# Altium footprint library NXP Semiconductors Cortex-M0.PcbLib: 22 footprints (part 1 of 2)
Each footprint in its own frame and in the unit in brackets; x right, y up, seen from the top. Pads: shape width x height; smd on the part's side, far side on the other; paste and mask are expansions set on the pad; w line width, h text height; cw(c..) or ccw(c..) is an arc to the next point about the centre after c.
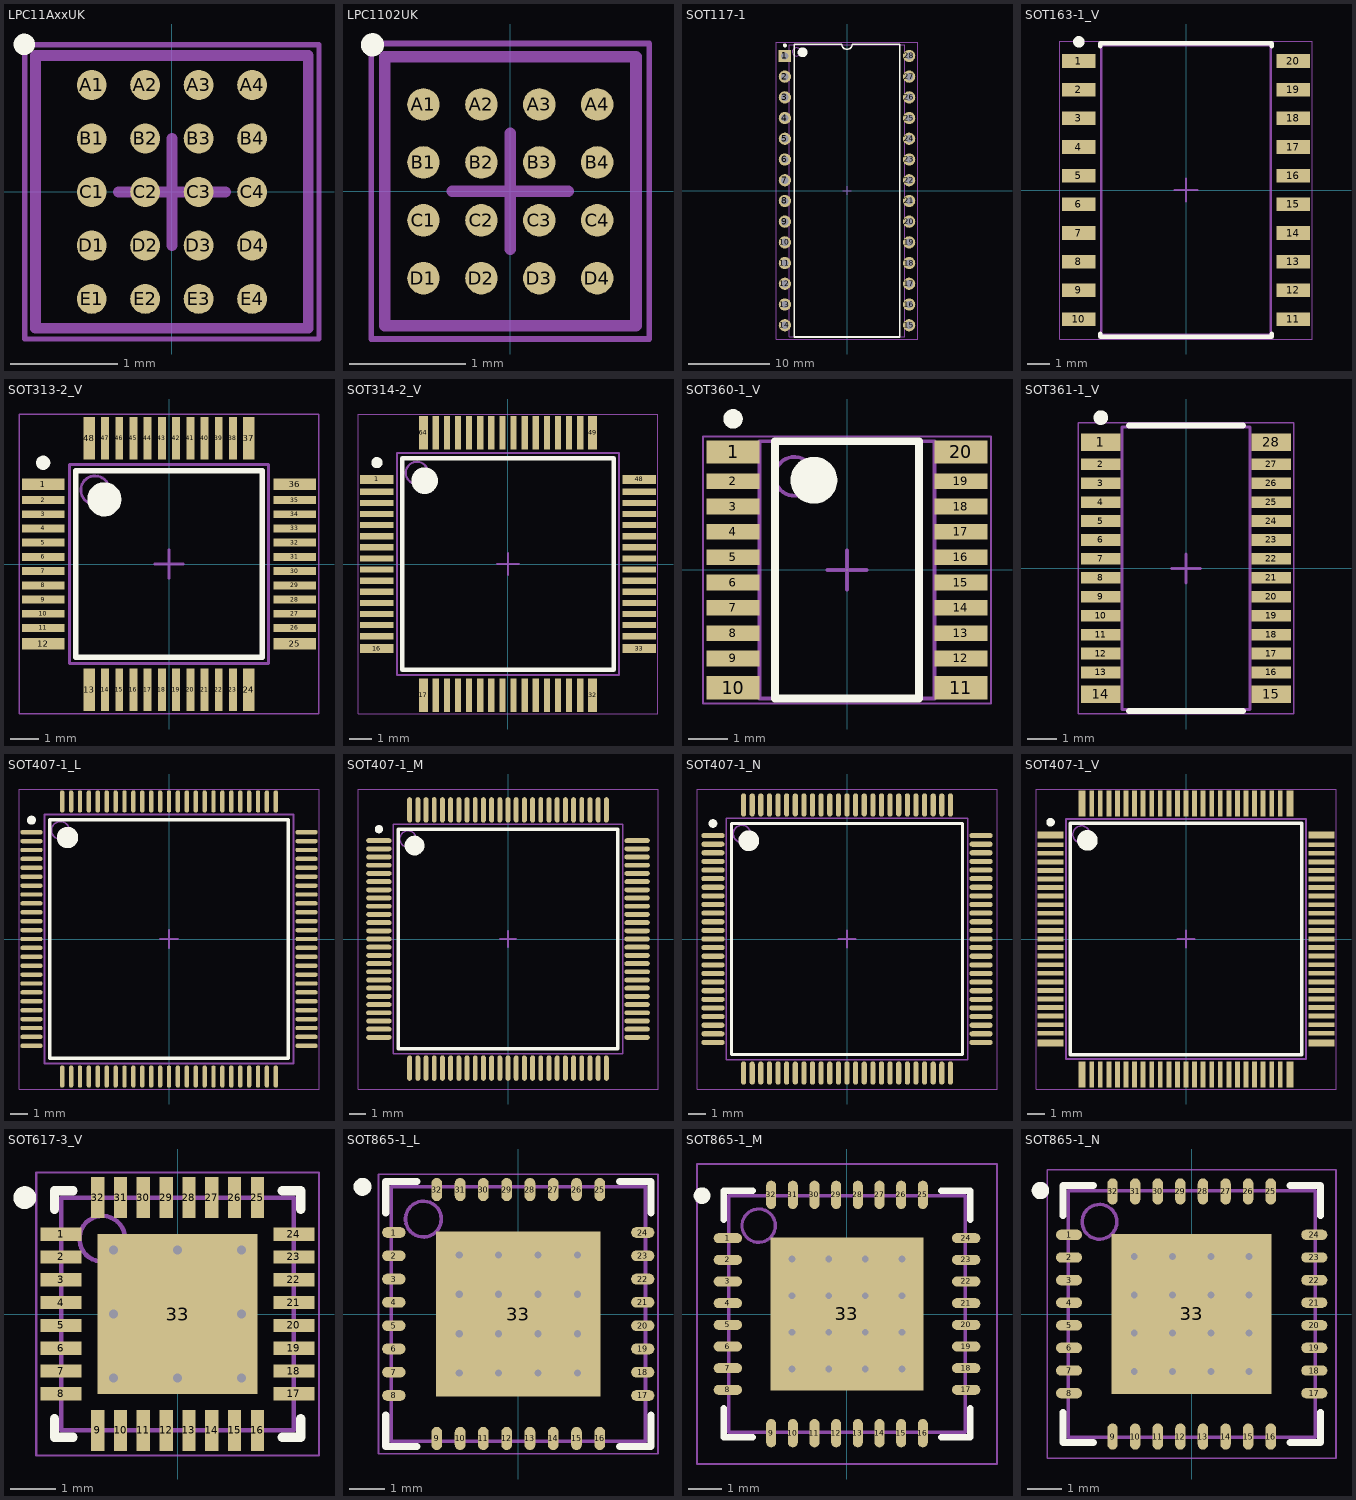
[diagram p0: the footprints below, top view; thin cyan lines are the x and y axes]

## LPC11AxxUK [mm] "BGA, 20-Leads, Body 2.55x2.55mm, Pitch 0.5mm, NXP Recommended Pads"
height 0.65
pads (20):
  round 0.28 smd: A1(-0.75,1) A2(-0.25,1) A3(0.25,1) A4(0.75,1) B1(-0.75,0.5) B2(-0.25,0.5) B3(0.25,0.5) B4(0.75,0.5) C1(-0.75,0) C2(-0.25,0) C3(0.25,0) C4(0.75,0) D1(-0.75,-0.5) D2(-0.25,-0.5) D3(0.25,-0.5) D4(0.75,-0.5) E1(-0.75,-1) E2(-0.25,-1) E3(0.25,-1) E4(0.75,-1)
Top Overlay:
  circle w0.1: c-1.38,1.38 r0.05
Mechanical 13:
  lines w0.1: -1.275,-1.275 1.275,-1.275 1.275,1.275 -1.275,1.275 -1.275,-1.275
Mechanical 15:
  lines w0.05: -1.375,-1.375 -1.375,1.375 1.375,1.375 1.375,-1.375 -1.375,-1.375
  lines w0.1: -0.5,0 0.5,0 ; 0,-0.5 0,0.5
3D body: height 0.65, standoff 0.21, extent -1.275,-1.275 1.275,1.275

## LPC1102UK [mm] "BGA, 16-Leads, Body 2.32x2.17mm, Pitch 0.5mm, NXP Recommended Pads"
height 0.65
pads (16):
  round 0.28 smd: A1(-0.75,0.75) A2(-0.25,0.75) A3(0.25,0.75) A4(0.75,0.75) B1(-0.75,0.25) B2(-0.25,0.25) B3(0.25,0.25) B4(0.75,0.25) C1(-0.75,-0.25) C2(-0.25,-0.25) C3(0.25,-0.25) C4(0.75,-0.25) D1(-0.75,-0.75) D2(-0.25,-0.75) D3(0.25,-0.75) D4(0.75,-0.75)
Top Overlay:
  circle w0.1: c-1.19,1.265 r0.05
Mechanical 13:
  lines w0.1: -1.085,-1.16 1.085,-1.16 1.085,1.16 -1.085,1.16 -1.085,-1.16
Mechanical 15:
  lines w0.05: -1.2,-1.275 1.2,-1.275 1.2,1.275 -1.2,1.275 -1.2,-1.275
  lines w0.1: -0.5,0 0.5,0 ; 0,-0.5 0,0.5
3D body: height 0.65, standoff 0.21, extent -1.085,-1.16 1.085,1.16

## SOT117-1 [mm] "DIP, 28-Leads, Row Spacing 15.24mm, Pitch 2.54mm, Body 34.9x14mm"
height 5.08
pads (28):
  rect 1.5x1.5 hole 0.9: 1(-7.62,16.51)
  round 1.5 hole 0.9: 2(-7.62,13.97) 3(-7.62,11.43) 4(-7.62,8.89) 5(-7.62,6.35) 6(-7.62,3.81) 7(-7.62,1.27) 8(-7.62,-1.27) 9(-7.62,-3.81) 10(-7.62,-6.35) 11(-7.62,-8.89) 12(-7.62,-11.43) 13(-7.62,-13.97) 14(-7.62,-16.51) 15(7.62,-16.51) 16(7.62,-13.97) 17(7.62,-11.43) 18(7.62,-8.89) 19(7.62,-6.35) 20(7.62,-3.81) 21(7.62,-1.27) 22(7.62,1.27) 23(7.62,3.81) 24(7.62,6.35) 25(7.62,8.89) 26(7.62,11.43) 27(7.62,13.97) 28(7.62,16.51)
Top Overlay:
  circle w0.25: c-7.62,17.81 r0.125
  circle w0.6: c-5.45,16.95 r0.3
  lines w0.2: -6.45,-17.95 -6.45,17.95 -0.635,17.95 ccw(c0,17.95) 0.635,17.95 6.45,17.95 6.45,-17.95 -6.45,-17.95
Mechanical 13:
  circle w0.1: c-6.2,17 r0.5
  lines w0.1: -7.1,-17.9 -7.1,17.9 7.1,17.9 7.1,-17.9 -7.1,-17.9
Mechanical 15:
  lines w0.05: -8.65,-18.2 -8.65,18.2 8.65,18.2 8.65,-18.2 -8.65,-18.2
  lines w0.1: -0.5,0 0.5,0 ; 0,-0.5 0,0.5
3D body: height 5.08, standoff 0.51, extent -7.1,-17.9 7.1,17.9

## SOT163-1_V [mm] "SOIC, 20-Leads, Body 12.8x7.5mm, Pitch 1.27mm, NXP Recommended"
height 2.65
pads (20):
  rect 1.5x0.6 smd: 1(-4.75,5.715) 2(-4.75,4.445) 3(-4.75,3.175) 4(-4.75,1.905) 5(-4.75,0.635) 6(-4.75,-0.635) 7(-4.75,-1.905) 8(-4.75,-3.175) 9(-4.75,-4.445) 10(-4.75,-5.715) 11(4.75,-5.715) 12(4.75,-4.445) 13(4.75,-3.175) 14(4.75,-1.905) 15(4.75,-0.635) 16(4.75,0.635) 17(4.75,1.905) 18(4.75,3.175) 19(4.75,4.445) 20(4.75,5.715)
Top Overlay:
  circle w0.25: c-4.75,6.565 r0.125
  lines w0.2: -3.8,-6.361 -3.8,-6.5 3.8,-6.5 3.8,-6.361 ; -3.8,6.361 -3.8,6.5 3.8,6.5 3.8,6.361
Mechanical 13:
  lines w0.1: -3.75,-6.4 -3.75,6.4 3.75,6.4 3.75,-6.4 -3.75,-6.4
Mechanical 15:
  lines w0.05: -5.6,-6.6 5.6,-6.6 5.6,6.6 -5.6,6.6 -5.6,-6.6
  lines w0.1: -0.5,0 0.5,0 ; 0,-0.5 0,0.5
3D body: height 2.65, standoff 0.1, extent -3.749,-6.399 3.749,6.399

## SOT313-2_V [mm] "Thin QFP, 48-Leads, Body 7x7mm, Pitch 0.5mm, NXP Recommended"
height 1.6
pads (48):
  rect 1.5x0.4 smd: 1(-4.425,2.81) 12(-4.425,-2.81) 25(4.425,-2.81) 36(4.425,2.81)
  rect 1.5x0.28 smd: 2(-4.425,2.25) 3(-4.425,1.75) 4(-4.425,1.25) 5(-4.425,0.75) 6(-4.425,0.25) 7(-4.425,-0.25) 8(-4.425,-0.75) 9(-4.425,-1.25) 10(-4.425,-1.75) 11(-4.425,-2.25) 26(4.425,-2.25) 27(4.425,-1.75) 28(4.425,-1.25) 29(4.425,-0.75) 30(4.425,-0.25) 31(4.425,0.25) 32(4.425,0.75) 33(4.425,1.25) 34(4.425,1.75) 35(4.425,2.25)
  rect 0.4x1.5 smd: 13(-2.81,-4.425) 24(2.81,-4.425) 37(2.81,4.425) 48(-2.81,4.425)
  rect 0.28x1.5 smd: 14(-2.25,-4.425) 15(-1.75,-4.425) 16(-1.25,-4.425) 17(-0.75,-4.425) 18(-0.25,-4.425) 19(0.25,-4.425) 20(0.75,-4.425) 21(1.25,-4.425) 22(1.75,-4.425) 23(2.25,-4.425) 38(2.25,4.425) 39(1.75,4.425) 40(1.25,4.425) 41(0.75,4.425) 42(0.25,4.425) 43(-0.25,4.425) 44(-0.75,4.425) 45(-1.25,4.425) 46(-1.75,4.425) 47(-2.25,4.425)
Top Overlay:
  circle w0.6: c-2.275,2.275 r0.3
  circle w0.25: c-4.425,3.56 r0.125
  lines w0.2: -3.275,-3.275 3.275,-3.275 3.275,3.275 -3.275,3.275 -3.275,-3.275
Mechanical 13:
  circle w0.1: c-2.6,2.6 r0.5
  lines w0.1: -3.5,-3.5 3.5,-3.5 3.5,3.5 -3.5,3.5 -3.5,-3.5
Mechanical 15:
  lines w0.05: -5.275,-5.275 5.275,-5.275 5.275,5.275 -5.275,5.275 -5.275,-5.275
  lines w0.1: -0.5,0 0.5,0 ; 0,-0.5 0,0.5
3D body: height 1.6, standoff 0.05, extent -3.5,-3.5 3.5,3.5

## SOT314-2_V [mm] "Thin QFP, 64-Leads, Body 10x10mm, Pitch 0.5mm, NXP Recommended"
height 1.6
pads (64):
  rect 1.5x0.4 smd: 1(-5.9,3.81) 16(-5.9,-3.81) 33(5.9,-3.81) 48(5.9,3.81)
  rect 1.5x0.28 smd: 2(-5.9,3.25) 3(-5.9,2.75) 4(-5.9,2.25) 5(-5.9,1.75) 6(-5.9,1.25) 7(-5.9,0.75) 8(-5.9,0.25) 9(-5.9,-0.25) 10(-5.9,-0.75) 11(-5.9,-1.25) 12(-5.9,-1.75) 13(-5.9,-2.25) 14(-5.9,-2.75) 15(-5.9,-3.25) 34(5.9,-3.25) 35(5.9,-2.75) 36(5.9,-2.25) 37(5.9,-1.75) 38(5.9,-1.25) 39(5.9,-0.75) 40(5.9,-0.25) 41(5.9,0.25) 42(5.9,0.75) 43(5.9,1.25) 44(5.9,1.75) 45(5.9,2.25) 46(5.9,2.75) 47(5.9,3.25)
  rect 0.4x1.5 smd: 17(-3.81,-5.9) 32(3.81,-5.9) 49(3.81,5.9) 64(-3.81,5.9)
  rect 0.28x1.5 smd: 18(-3.25,-5.9) 19(-2.75,-5.9) 20(-2.25,-5.9) 21(-1.75,-5.9) 22(-1.25,-5.9) 23(-0.75,-5.9) 24(-0.25,-5.9) 25(0.25,-5.9) 26(0.75,-5.9) 27(1.25,-5.9) 28(1.75,-5.9) 29(2.25,-5.9) 30(2.75,-5.9) 31(3.25,-5.9) 50(3.25,5.9) 51(2.75,5.9) 52(2.25,5.9) 53(1.75,5.9) 54(1.25,5.9) 55(0.75,5.9) 56(0.25,5.9) 57(-0.25,5.9) 58(-0.75,5.9) 59(-1.25,5.9) 60(-1.75,5.9) 61(-2.25,5.9) 62(-2.75,5.9) 63(-3.25,5.9)
Top Overlay:
  circle w0.6: c-3.75,3.75 r0.3
  circle w0.25: c-5.9,4.56 r0.125
  lines w0.2: -4.75,-4.75 4.75,-4.75 4.75,4.75 -4.75,4.75 -4.75,-4.75
Mechanical 13:
  circle w0.1: c-4.1,4.1 r0.5
  lines w0.1: -5,-5 5,-5 5,5 -5,5 -5,-5
Mechanical 15:
  lines w0.05: -6.75,-6.75 6.75,-6.75 6.75,6.75 -6.75,6.75 -6.75,-6.75
  lines w0.1: -0.5,0 0.5,0 ; 0,-0.5 0,0.5
3D body: height 1.6, standoff 0.05, extent -5,-5 5,5

## SOT360-1_V [mm] "TSOP, 20-Leads, Body 6.5x4.4mm, Pitch 0.65mm, NXP Recommended"
height 1.1
pads (20):
  rect 1.35x0.6 smd: 1(-2.925,3.025) 10(-2.925,-3.025) 11(2.925,-3.025) 20(2.925,3.025)
  rect 1.35x0.4 smd: 2(-2.925,2.275) 3(-2.925,1.625) 4(-2.925,0.975) 5(-2.925,0.325) 6(-2.925,-0.325) 7(-2.925,-0.975) 8(-2.925,-1.625) 9(-2.925,-2.275) 12(2.925,-2.275) 13(2.925,-1.625) 14(2.925,-0.975) 15(2.925,-0.325) 16(2.925,0.325) 17(2.925,0.975) 18(2.925,1.625) 19(2.925,2.275)
Top Overlay:
  circle w0.6: c-0.85,2.3 r0.3
  circle w0.25: c-2.925,3.875 r0.125
  lines w0.2: -1.85,-3.3 1.85,-3.3 1.85,3.3 -1.85,3.3 -1.85,-3.3
Mechanical 13:
  circle w0.1: c-1.35,2.4 r0.5
  lines w0.1: -2.25,-3.3 2.25,-3.3 2.25,3.3 -2.25,3.3 -2.25,-3.3
Mechanical 15:
  lines w0.05: -3.7,-3.425 3.7,-3.425 3.7,3.425 -3.7,3.425 -3.7,-3.425
  lines w0.1: -0.5,0 0.5,0 ; 0,-0.5 0,0.5
3D body: height 1.1, standoff 0.05, extent -2.25,-3.3 2.25,3.3

## SOT361-1_V [mm] "SOP, 28-Leads, Body 9.7x4.4mm, Pitch 0.65mm, NXP Recommended"
height 1.1
pads (28):
  rect 1.35x0.6 smd: 1(-2.925,4.325) 14(-2.925,-4.325) 15(2.925,-4.325) 28(2.925,4.325)
  rect 1.35x0.4 smd: 2(-2.925,3.575) 3(-2.925,2.925) 4(-2.925,2.275) 5(-2.925,1.625) 6(-2.925,0.975) 7(-2.925,0.325) 8(-2.925,-0.325) 9(-2.925,-0.975) 10(-2.925,-1.625) 11(-2.925,-2.275) 12(-2.925,-2.925) 13(-2.925,-3.575) 16(2.925,-3.575) 17(2.925,-2.925) 18(2.925,-2.275) 19(2.925,-1.625) 20(2.925,-0.975) 21(2.925,-0.325) 22(2.925,0.325) 23(2.925,0.975) 24(2.925,1.625) 25(2.925,2.275) 26(2.925,2.925) 27(2.925,3.575)
Top Overlay:
  circle w0.25: c-2.925,5.175 r0.125
  lines w0.2: -1.96,-4.9 1.96,-4.9 ; -1.96,4.9 1.96,4.9
Mechanical 13:
  lines w0.1: -2.2,-4.85 2.2,-4.85 2.2,4.85 -2.2,4.85 -2.2,-4.85
Mechanical 15:
  lines w0.05: -3.7,-5 3.7,-5 3.7,5 -3.7,5 -3.7,-5
  lines w0.1: -0.5,0 0.5,0 ; 0,-0.5 0,0.5
3D body: height 1.1, standoff 0.05, extent -2.2,-4.85 2.2,4.85

## SOT407-1_L [mm] "Thin QFP, 100-Leads, Body 14x14mm, Pitch 0.5mm, IPC High Density"
height 1.6
pads (100):
  oval 1.25x0.25 smd: 1(-7.725,6) 2(-7.725,5.5) 3(-7.725,5) 4(-7.725,4.5) 5(-7.725,4) 6(-7.725,3.5) 7(-7.725,3) 8(-7.725,2.5) 9(-7.725,2) 10(-7.725,1.5) 11(-7.725,1) 12(-7.725,0.5) 13(-7.725,0) 14(-7.725,-0.5) 15(-7.725,-1) 16(-7.725,-1.5) 17(-7.725,-2) 18(-7.725,-2.5) 19(-7.725,-3) 20(-7.725,-3.5) 21(-7.725,-4) 22(-7.725,-4.5) 23(-7.725,-5) 24(-7.725,-5.5) 25(-7.725,-6) 51(7.725,-6) 52(7.725,-5.5) 53(7.725,-5) 54(7.725,-4.5) 55(7.725,-4) 56(7.725,-3.5) 57(7.725,-3) 58(7.725,-2.5) 59(7.725,-2) 60(7.725,-1.5) 61(7.725,-1) 62(7.725,-0.5) 63(7.725,0) 64(7.725,0.5) 65(7.725,1) 66(7.725,1.5) 67(7.725,2) 68(7.725,2.5) 69(7.725,3) 70(7.725,3.5) 71(7.725,4) 72(7.725,4.5) 73(7.725,5) 74(7.725,5.5) 75(7.725,6)
  oval 0.25x1.25 smd: 26(-6,-7.725) 27(-5.5,-7.725) 28(-5,-7.725) 29(-4.5,-7.725) 30(-4,-7.725) 31(-3.5,-7.725) 32(-3,-7.725) 33(-2.5,-7.725) 34(-2,-7.725) 35(-1.5,-7.725) 36(-1,-7.725) 37(-0.5,-7.725) 38(0,-7.725) 39(0.5,-7.725) 40(1,-7.725) 41(1.5,-7.725) 42(2,-7.725) 43(2.5,-7.725) 44(3,-7.725) 45(3.5,-7.725) 46(4,-7.725) 47(4.5,-7.725) 48(5,-7.725) 49(5.5,-7.725) 50(6,-7.725) 76(6,7.725) 77(5.5,7.725) 78(5,7.725) 79(4.5,7.725) 80(4,7.725) 81(3.5,7.725) 82(3,7.725) 83(2.5,7.725) 84(2,7.725) 85(1.5,7.725) 86(1,7.725) 87(0.5,7.725) 88(0,7.725) 89(-0.5,7.725) 90(-1,7.725) 91(-1.5,7.725) 92(-2,7.725) 93(-2.5,7.725) 94(-3,7.725) 95(-3.5,7.725) 96(-4,7.725) 97(-4.5,7.725) 98(-5,7.725) 99(-5.5,7.725) 100(-6,7.725)
Top Overlay:
  circle w0.6: c-5.7,5.7 r0.3
  circle w0.25: c-7.725,6.675 r0.125
  lines w0.2: -6.7,-6.7 6.7,-6.7 6.7,6.7 -6.7,6.7 -6.7,-6.7
Mechanical 13:
  circle w0.1: c-6.1,6.1 r0.5
  lines w0.1: -7,-7 7,-7 7,7 -7,7 -7,-7
Mechanical 15:
  lines w0.05: -8.425,-8.425 8.425,-8.425 8.425,8.425 -8.425,8.425 -8.425,-8.425
  lines w0.1: -0.5,0 0.5,0 ; 0,-0.5 0,0.5
3D body: height 1.6, standoff 0.05, extent -7,-7 7,7

## SOT407-1_M [mm] "Thin QFP, 100-Leads, Body 14x14mm, Pitch 0.5mm, IPC Low Density"
height 1.6
pads (100):
  oval 1.55x0.3 smd: 1(-7.875,6) 2(-7.875,5.5) 3(-7.875,5) 4(-7.875,4.5) 5(-7.875,4) 6(-7.875,3.5) 7(-7.875,3) 8(-7.875,2.5) 9(-7.875,2) 10(-7.875,1.5) 11(-7.875,1) 12(-7.875,0.5) 13(-7.875,0) 14(-7.875,-0.5) 15(-7.875,-1) 16(-7.875,-1.5) 17(-7.875,-2) 18(-7.875,-2.5) 19(-7.875,-3) 20(-7.875,-3.5) 21(-7.875,-4) 22(-7.875,-4.5) 23(-7.875,-5) 24(-7.875,-5.5) 25(-7.875,-6) 51(7.875,-6) 52(7.875,-5.5) 53(7.875,-5) 54(7.875,-4.5) 55(7.875,-4) 56(7.875,-3.5) 57(7.875,-3) 58(7.875,-2.5) 59(7.875,-2) 60(7.875,-1.5) 61(7.875,-1) 62(7.875,-0.5) 63(7.875,0) 64(7.875,0.5) 65(7.875,1) 66(7.875,1.5) 67(7.875,2) 68(7.875,2.5) 69(7.875,3) 70(7.875,3.5) 71(7.875,4) 72(7.875,4.5) 73(7.875,5) 74(7.875,5.5) 75(7.875,6)
  oval 0.3x1.55 smd: 26(-6,-7.875) 27(-5.5,-7.875) 28(-5,-7.875) 29(-4.5,-7.875) 30(-4,-7.875) 31(-3.5,-7.875) 32(-3,-7.875) 33(-2.5,-7.875) 34(-2,-7.875) 35(-1.5,-7.875) 36(-1,-7.875) 37(-0.5,-7.875) 38(0,-7.875) 39(0.5,-7.875) 40(1,-7.875) 41(1.5,-7.875) 42(2,-7.875) 43(2.5,-7.875) 44(3,-7.875) 45(3.5,-7.875) 46(4,-7.875) 47(4.5,-7.875) 48(5,-7.875) 49(5.5,-7.875) 50(6,-7.875) 76(6,7.875) 77(5.5,7.875) 78(5,7.875) 79(4.5,7.875) 80(4,7.875) 81(3.5,7.875) 82(3,7.875) 83(2.5,7.875) 84(2,7.875) 85(1.5,7.875) 86(1,7.875) 87(0.5,7.875) 88(0,7.875) 89(-0.5,7.875) 90(-1,7.875) 91(-1.5,7.875) 92(-2,7.875) 93(-2.5,7.875) 94(-3,7.875) 95(-3.5,7.875) 96(-4,7.875) 97(-4.5,7.875) 98(-5,7.875) 99(-5.5,7.875) 100(-6,7.875)
Top Overlay:
  circle w0.25: c-7.875,6.7 r0.125
  circle w0.6: c-5.7,5.7 r0.3
  lines w0.2: -6.7,-6.7 -6.7,6.7 6.7,6.7 6.7,-6.7 -6.7,-6.7
Mechanical 13:
  circle w0.1: c-6.1,6.1 r0.5
  lines w0.1: -7,-7 -7,7 7,7 7,-7 -7,-7
Mechanical 15:
  lines w0.05: -9.15,-9.15 -9.15,9.15 9.15,9.15 9.15,-9.15 -9.15,-9.15
  lines w0.1: -0.5,0 0.5,0 ; 0,-0.5 0,0.5
3D body: height 1.6, standoff 0.05, extent -7,-7 7,7

## SOT407-1_N [mm] "Thin QFP, 100-Leads, Body 14x14mm, Pitch 0.5mm, IPC Medium Density"
height 1.6
pads (100):
  oval 1.35x0.3 smd: 1(-7.775,6) 2(-7.775,5.5) 3(-7.775,5) 4(-7.775,4.5) 5(-7.775,4) 6(-7.775,3.5) 7(-7.775,3) 8(-7.775,2.5) 9(-7.775,2) 10(-7.775,1.5) 11(-7.775,1) 12(-7.775,0.5) 13(-7.775,0) 14(-7.775,-0.5) 15(-7.775,-1) 16(-7.775,-1.5) 17(-7.775,-2) 18(-7.775,-2.5) 19(-7.775,-3) 20(-7.775,-3.5) 21(-7.775,-4) 22(-7.775,-4.5) 23(-7.775,-5) 24(-7.775,-5.5) 25(-7.775,-6) 51(7.775,-6) 52(7.775,-5.5) 53(7.775,-5) 54(7.775,-4.5) 55(7.775,-4) 56(7.775,-3.5) 57(7.775,-3) 58(7.775,-2.5) 59(7.775,-2) 60(7.775,-1.5) 61(7.775,-1) 62(7.775,-0.5) 63(7.775,0) 64(7.775,0.5) 65(7.775,1) 66(7.775,1.5) 67(7.775,2) 68(7.775,2.5) 69(7.775,3) 70(7.775,3.5) 71(7.775,4) 72(7.775,4.5) 73(7.775,5) 74(7.775,5.5) 75(7.775,6)
  oval 0.3x1.35 smd: 26(-6,-7.775) 27(-5.5,-7.775) 28(-5,-7.775) 29(-4.5,-7.775) 30(-4,-7.775) 31(-3.5,-7.775) 32(-3,-7.775) 33(-2.5,-7.775) 34(-2,-7.775) 35(-1.5,-7.775) 36(-1,-7.775) 37(-0.5,-7.775) 38(0,-7.775) 39(0.5,-7.775) 40(1,-7.775) 41(1.5,-7.775) 42(2,-7.775) 43(2.5,-7.775) 44(3,-7.775) 45(3.5,-7.775) 46(4,-7.775) 47(4.5,-7.775) 48(5,-7.775) 49(5.5,-7.775) 50(6,-7.775) 76(6,7.775) 77(5.5,7.775) 78(5,7.775) 79(4.5,7.775) 80(4,7.775) 81(3.5,7.775) 82(3,7.775) 83(2.5,7.775) 84(2,7.775) 85(1.5,7.775) 86(1,7.775) 87(0.5,7.775) 88(0,7.775) 89(-0.5,7.775) 90(-1,7.775) 91(-1.5,7.775) 92(-2,7.775) 93(-2.5,7.775) 94(-3,7.775) 95(-3.5,7.775) 96(-4,7.775) 97(-4.5,7.775) 98(-5,7.775) 99(-5.5,7.775) 100(-6,7.775)
Top Overlay:
  circle w0.6: c-5.7,5.7 r0.3
  circle w0.25: c-7.775,6.7 r0.125
  lines w0.2: -6.7,-6.7 6.7,-6.7 6.7,6.7 -6.7,6.7 -6.7,-6.7
Mechanical 13:
  circle w0.1: c-6.1,6.1 r0.5
  lines w0.1: -7,-7 7,-7 7,7 -7,7 -7,-7
Mechanical 15:
  lines w0.05: -8.7,-8.7 8.7,-8.7 8.7,8.7 -8.7,8.7 -8.7,-8.7
  lines w0.1: -0.5,0 0.5,0 ; 0,-0.5 0,0.5
3D body: height 1.6, standoff 0.05, extent -7,-7 7,7

## SOT407-1_V [mm] "Thin QFP, 100-Leads, Body 14x14mm, Pitch 0.5mm, NXP Recommended"
height 1.6
pads (100):
  rect 1.5x0.4 smd: 1(-7.9,6.06) 25(-7.9,-6.06) 51(7.9,-6.06) 75(7.9,6.06)
  rect 1.5x0.28 smd: 2(-7.9,5.5) 3(-7.9,5) 4(-7.9,4.5) 5(-7.9,4) 6(-7.9,3.5) 7(-7.9,3) 8(-7.9,2.5) 9(-7.9,2) 10(-7.9,1.5) 11(-7.9,1) 12(-7.9,0.5) 13(-7.9,0) 14(-7.9,-0.5) 15(-7.9,-1) 16(-7.9,-1.5) 17(-7.9,-2) 18(-7.9,-2.5) 19(-7.9,-3) 20(-7.9,-3.5) 21(-7.9,-4) 22(-7.9,-4.5) 23(-7.9,-5) 24(-7.9,-5.5) 52(7.9,-5.5) 53(7.9,-5) 54(7.9,-4.5) 55(7.9,-4) 56(7.9,-3.5) 57(7.9,-3) 58(7.9,-2.5) 59(7.9,-2) 60(7.9,-1.5) 61(7.9,-1) 62(7.9,-0.5) 63(7.9,0) 64(7.9,0.5) 65(7.9,1) 66(7.9,1.5) 67(7.9,2) 68(7.9,2.5) 69(7.9,3) 70(7.9,3.5) 71(7.9,4) 72(7.9,4.5) 73(7.9,5) 74(7.9,5.5)
  rect 0.4x1.5 smd: 26(-6.06,-7.9) 50(6.06,-7.9) 76(6.06,7.9) 100(-6.06,7.9)
  rect 0.28x1.5 smd: 27(-5.5,-7.9) 28(-5,-7.9) 29(-4.5,-7.9) 30(-4,-7.9) 31(-3.5,-7.9) 32(-3,-7.9) 33(-2.5,-7.9) 34(-2,-7.9) 35(-1.5,-7.9) 36(-1,-7.9) 37(-0.5,-7.9) 38(0,-7.9) 39(0.5,-7.9) 40(1,-7.9) 41(1.5,-7.9) 42(2,-7.9) 43(2.5,-7.9) 44(3,-7.9) 45(3.5,-7.9) 46(4,-7.9) 47(4.5,-7.9) 48(5,-7.9) 49(5.5,-7.9) 77(5.5,7.9) 78(5,7.9) 79(4.5,7.9) 80(4,7.9) 81(3.5,7.9) 82(3,7.9) 83(2.5,7.9) 84(2,7.9) 85(1.5,7.9) 86(1,7.9) 87(0.5,7.9) 88(0,7.9) 89(-0.5,7.9) 90(-1,7.9) 91(-1.5,7.9) 92(-2,7.9) 93(-2.5,7.9) 94(-3,7.9) 95(-3.5,7.9) 96(-4,7.9) 97(-4.5,7.9) 98(-5,7.9) 99(-5.5,7.9)
Top Overlay:
  circle w0.6: c-5.75,5.75 r0.3
  circle w0.25: c-7.9,6.81 r0.125
  lines w0.2: -6.75,-6.75 6.75,-6.75 6.75,6.75 -6.75,6.75 -6.75,-6.75
Mechanical 13:
  circle w0.1: c-6.1,6.1 r0.5
  lines w0.1: -7,-7 7,-7 7,7 -7,7 -7,-7
Mechanical 15:
  lines w0.05: -8.75,-8.75 8.75,-8.75 8.75,8.75 -8.75,8.75 -8.75,-8.75
  lines w0.1: -0.5,0 0.5,0 ; 0,-0.5 0,0.5
3D body: height 1.6, standoff 0.05, extent -7,-7 7,7

## SOT617-3_V [mm] "QFN, 32-Leads, Body 5x5mm, Pitch 0.5mm, Thermal Pad 3.5x3.5mm, NXP Recommended"
height 0.85
pads (33):
  rect 0.9x0.29 smd: 1(-2.55,1.75) 2(-2.55,1.25) 3(-2.55,0.75) 4(-2.55,0.25) 5(-2.55,-0.25) 6(-2.55,-0.75) 7(-2.55,-1.25) 8(-2.55,-1.75) 17(2.55,-1.75) 18(2.55,-1.25) 19(2.55,-0.75) 20(2.55,-0.25) 21(2.55,0.25) 22(2.55,0.75) 23(2.55,1.25) 24(2.55,1.75)
  rect 0.29x0.9 smd: 9(-1.75,-2.55) 10(-1.25,-2.55) 11(-0.75,-2.55) 12(-0.25,-2.55) 13(0.25,-2.55) 14(0.75,-2.55) 15(1.25,-2.55) 16(1.75,-2.55) 25(1.75,2.55) 26(1.25,2.55) 27(0.75,2.55) 28(0.25,2.55) 29(-0.25,2.55) 30(-0.75,2.55) 31(-1.25,2.55) 32(-1.75,2.55)
  rect 3.5x3.5 smd paste-1.75: 33(0,0)
via -1.4,1.4 diameter 0.5 hole 0.2
via 0,1.4 diameter 0.5 hole 0.2
via 1.4,1.4 diameter 0.5 hole 0.2
via -1.4,0 diameter 0.5 hole 0.2
via 1.4,0 diameter 0.5 hole 0.2
via -1.4,-1.4 diameter 0.5 hole 0.2
via 0,-1.4 diameter 0.5 hole 0.2
via 1.4,-1.4 diameter 0.5 hole 0.2
Top Overlay:
  circle w0.25: c-3.35,2.55 r0.125
  lines w0.2: -2.7,-2.295 -2.7,-2.7 -2.295,-2.7 ; -2.7,2.295 -2.7,2.7 -2.295,2.7 ; 2.295,-2.7 2.7,-2.7 2.7,-2.295 ; 2.295,2.7 2.7,2.7 2.7,2.295
Top Paste:
  rectangle: -0.25,-0.25 0.25,0.25
  rectangle: 0.55,-0.25 1.05,0.25
  rectangle: -0.25,-1.05 0.25,-0.55
  rectangle: 0.55,-1.05 1.05,-0.55
  rectangle: -1.05,-1.05 -0.55,-0.55
  rectangle: -1.05,-0.25 -0.55,0.25
  rectangle: -1.05,0.55 -0.55,1.05
  rectangle: -0.25,0.55 0.25,1.05
  rectangle: 0.55,0.55 1.05,1.05
Mechanical 13:
  circle w0.1: c-1.65,1.65 r0.5
  lines w0.1: -2.55,-2.55 -2.55,2.55 2.55,2.55 2.55,-2.55 -2.55,-2.55
Mechanical 15:
  lines w0.05: -3.1,-3.1 -3.1,3.1 3.1,3.1 3.1,-3.1 -3.1,-3.1
  lines w0.1: -0.5,0 0.5,0 ; 0,-0.5 0,0.5
3D body: height 0.85, standoff 0, extent -2.55,-2.55 2.55,2.55

## SOT865-1_L [mm] "QFN, 32-Leads, Body 7x7mm, Pitch 0.65mm, Thermal Pad 4.6x4.6mm, IPC High Density"
height 1
pads (33):
  oval 0.65x0.3 smd: 1(-3.475,2.275) 2(-3.475,1.625) 3(-3.475,0.975) 4(-3.475,0.325) 5(-3.475,-0.325) 6(-3.475,-0.975) 7(-3.475,-1.625) 8(-3.475,-2.275) 17(3.475,-2.275) 18(3.475,-1.625) 19(3.475,-0.975) 20(3.475,-0.325) 21(3.475,0.325) 22(3.475,0.975) 23(3.475,1.625) 24(3.475,2.275)
  oval 0.3x0.65 smd: 9(-2.275,-3.475) 10(-1.625,-3.475) 11(-0.975,-3.475) 12(-0.325,-3.475) 13(0.325,-3.475) 14(0.975,-3.475) 15(1.625,-3.475) 16(2.275,-3.475) 25(2.275,3.475) 26(1.625,3.475) 27(0.975,3.475) 28(0.325,3.475) 29(-0.325,3.475) 30(-0.975,3.475) 31(-1.625,3.475) 32(-2.275,3.475)
  rect 4.6x4.6 smd: 33(0,0)
via 1.65,-1.65 diameter 0.5 hole 0.2
via 0.55,-1.65 diameter 0.5 hole 0.2
via -0.55,-1.65 diameter 0.5 hole 0.2
via -1.65,-1.65 diameter 0.5 hole 0.2
via 1.65,-0.55 diameter 0.5 hole 0.2
via 0.55,-0.55 diameter 0.5 hole 0.2
via -0.55,-0.55 diameter 0.5 hole 0.2
via -1.65,-0.55 diameter 0.5 hole 0.2
via 1.65,0.55 diameter 0.5 hole 0.2
via 0.55,0.55 diameter 0.5 hole 0.2
via -0.55,0.55 diameter 0.5 hole 0.2
via -1.65,0.55 diameter 0.5 hole 0.2
via 1.65,1.65 diameter 0.5 hole 0.2
via 0.55,1.65 diameter 0.5 hole 0.2
via -0.55,1.65 diameter 0.5 hole 0.2
via -1.65,1.65 diameter 0.5 hole 0.2
Top Overlay:
  circle w0.25: c-4.35,3.55 r0.125
  lines w0.2: -3.7,-2.825 -3.7,-3.7 -2.825,-3.7 ; -3.7,2.825 -3.7,3.7 -2.825,3.7 ; 2.825,-3.7 3.7,-3.7 3.7,-2.825 ; 2.825,3.7 3.7,3.7 3.7,2.825
Mechanical 13:
  circle w0.1: c-2.65,2.65 r0.5
  lines w0.1: -3.55,-3.55 3.55,-3.55 3.55,3.55 -3.55,3.55 -3.55,-3.55
Mechanical 15:
  lines w0.05: -3.9,-3.9 3.9,-3.9 3.9,3.9 -3.9,3.9 -3.9,-3.9
  lines w0.1: -0.5,0 0.5,0 ; 0,-0.5 0,0.5
3D body: height 1, standoff 0, extent -3.55,-3.55 3.55,3.55

## SOT865-1_M [mm] "QFN, 32-Leads, Body 7x7mm, Pitch 0.65mm, Thermal Pad 4.6x4.6mm, IPC Low Density"
height 1
pads (33):
  oval 0.85x0.3 smd: 1(-3.575,2.275) 2(-3.575,1.625) 3(-3.575,0.975) 4(-3.575,0.325) 5(-3.575,-0.325) 6(-3.575,-0.975) 7(-3.575,-1.625) 8(-3.575,-2.275) 17(3.575,-2.275) 18(3.575,-1.625) 19(3.575,-0.975) 20(3.575,-0.325) 21(3.575,0.325) 22(3.575,0.975) 23(3.575,1.625) 24(3.575,2.275)
  oval 0.3x0.85 smd: 9(-2.275,-3.575) 10(-1.625,-3.575) 11(-0.975,-3.575) 12(-0.325,-3.575) 13(0.325,-3.575) 14(0.975,-3.575) 15(1.625,-3.575) 16(2.275,-3.575) 25(2.275,3.575) 26(1.625,3.575) 27(0.975,3.575) 28(0.325,3.575) 29(-0.325,3.575) 30(-0.975,3.575) 31(-1.625,3.575) 32(-2.275,3.575)
  rect 4.6x4.6 smd: 33(0,0)
via -1.65,1.65 diameter 0.5 hole 0.2
via -0.55,1.65 diameter 0.5 hole 0.2
via 0.55,1.65 diameter 0.5 hole 0.2
via 1.65,1.65 diameter 0.5 hole 0.2
via -1.65,0.55 diameter 0.5 hole 0.2
via -0.55,0.55 diameter 0.5 hole 0.2
via 0.55,0.55 diameter 0.5 hole 0.2
via 1.65,0.55 diameter 0.5 hole 0.2
via -1.65,-0.55 diameter 0.5 hole 0.2
via -0.55,-0.55 diameter 0.5 hole 0.2
via 0.55,-0.55 diameter 0.5 hole 0.2
via 1.65,-0.55 diameter 0.5 hole 0.2
via -1.65,-1.65 diameter 0.5 hole 0.2
via -0.55,-1.65 diameter 0.5 hole 0.2
via 0.55,-1.65 diameter 0.5 hole 0.2
via 1.65,-1.65 diameter 0.5 hole 0.2
Top Overlay:
  circle w0.25: c-4.35,3.55 r0.125
  lines w0.2: -3.7,-2.825 -3.7,-3.7 -2.825,-3.7 ; -3.7,2.825 -3.7,3.7 -2.825,3.7 ; 2.825,-3.7 3.7,-3.7 3.7,-2.825 ; 2.825,3.7 3.7,3.7 3.7,2.825
Mechanical 13:
  circle w0.1: c-2.65,2.65 r0.5
  lines w0.1: -3.55,-3.55 -3.55,3.55 3.55,3.55 3.55,-3.55 -3.55,-3.55
Mechanical 15:
  lines w0.05: -4.5,-4.5 -4.5,4.5 4.5,4.5 4.5,-4.5 -4.5,-4.5
  lines w0.1: -0.5,0 0.5,0 ; 0,-0.5 0,0.5
3D body: height 1, standoff 0, extent -3.55,-3.55 3.55,3.55

## SOT865-1_N [mm] "QFN, 32-Leads, Body 7x7mm, Pitch 0.65mm, Thermal Pad 4.6x4.6mm, IPC Medium Density"
height 1
pads (33):
  oval 0.75x0.3 smd: 1(-3.525,2.275) 2(-3.525,1.625) 3(-3.525,0.975) 4(-3.525,0.325) 5(-3.525,-0.325) 6(-3.525,-0.975) 7(-3.525,-1.625) 8(-3.525,-2.275) 17(3.525,-2.275) 18(3.525,-1.625) 19(3.525,-0.975) 20(3.525,-0.325) 21(3.525,0.325) 22(3.525,0.975) 23(3.525,1.625) 24(3.525,2.275)
  oval 0.3x0.75 smd: 9(-2.275,-3.525) 10(-1.625,-3.525) 11(-0.975,-3.525) 12(-0.325,-3.525) 13(0.325,-3.525) 14(0.975,-3.525) 15(1.625,-3.525) 16(2.275,-3.525) 25(2.275,3.525) 26(1.625,3.525) 27(0.975,3.525) 28(0.325,3.525) 29(-0.325,3.525) 30(-0.975,3.525) 31(-1.625,3.525) 32(-2.275,3.525)
  rect 4.6x4.6 smd: 33(0,0)
via 1.65,-1.65 diameter 0.5 hole 0.2
via 0.55,-1.65 diameter 0.5 hole 0.2
via -0.55,-1.65 diameter 0.5 hole 0.2
via -1.65,-1.65 diameter 0.5 hole 0.2
via 1.65,-0.55 diameter 0.5 hole 0.2
via 0.55,-0.55 diameter 0.5 hole 0.2
via -0.55,-0.55 diameter 0.5 hole 0.2
via -1.65,-0.55 diameter 0.5 hole 0.2
via 1.65,0.55 diameter 0.5 hole 0.2
via 0.55,0.55 diameter 0.5 hole 0.2
via -0.55,0.55 diameter 0.5 hole 0.2
via -1.65,0.55 diameter 0.5 hole 0.2
via 1.65,1.65 diameter 0.5 hole 0.2
via 0.55,1.65 diameter 0.5 hole 0.2
via -0.55,1.65 diameter 0.5 hole 0.2
via -1.65,1.65 diameter 0.5 hole 0.2
Top Overlay:
  circle w0.25: c-4.35,3.55 r0.125
  lines w0.2: -3.7,-2.825 -3.7,-3.7 -2.825,-3.7 ; -3.7,2.825 -3.7,3.7 -2.825,3.7 ; 2.825,-3.7 3.7,-3.7 3.7,-2.825 ; 2.825,3.7 3.7,3.7 3.7,2.825
Mechanical 13:
  circle w0.1: c-2.65,2.65 r0.5
  lines w0.1: -3.55,-3.55 3.55,-3.55 3.55,3.55 -3.55,3.55 -3.55,-3.55
Mechanical 15:
  lines w0.05: -4.15,-4.15 4.15,-4.15 4.15,4.15 -4.15,4.15 -4.15,-4.15
  lines w0.1: -0.5,0 0.5,0 ; 0,-0.5 0,0.5
3D body: height 1, standoff 0, extent -3.55,-3.55 3.55,3.55